# Altium footprint library Components - 18.02.23 - 10.49.PcbLib: 1 footprints
Each footprint in its own frame and in the unit in brackets; x right, y up, seen from the top. Pads: shape width x height; smd on the part's side, far side on the other; paste and mask are expansions set on the pad; w line width, h text height; cw(c..) or ccw(c..) is an arc to the next point about the centre after c.
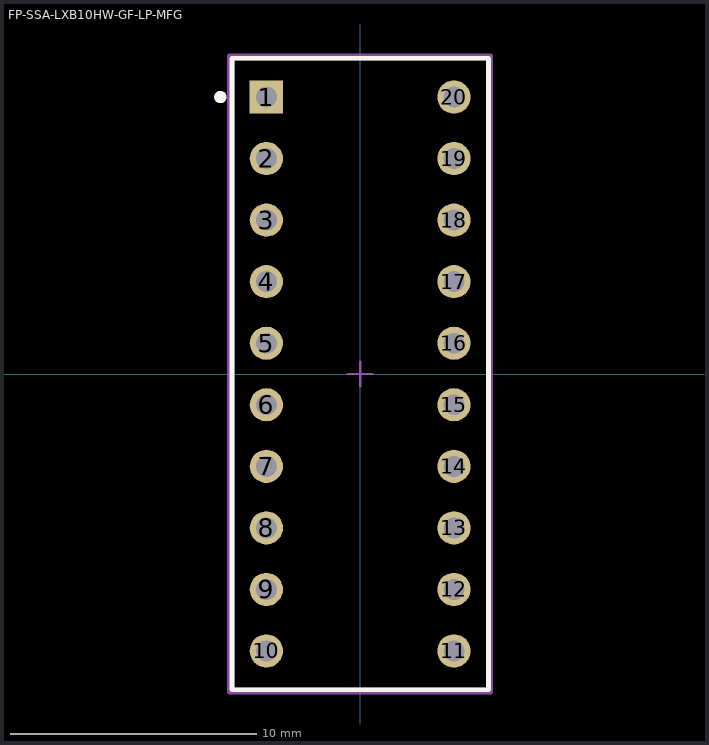
[diagram p0: the footprint, top view; thin cyan lines are the x and y axes]

## FP-SSA-LXB10HW-GF-LP-MFG [mm]
pads (20):
  rect 1.35x1.35 hole 0.85 paste-1000 mask+0: 1(-3.81,11.25)
  round 1.35 hole 0.85 paste-1000 mask+0: 2(-3.81,8.75) 3(-3.81,6.25) 4(-3.81,3.75) 5(-3.81,1.25) 6(-3.81,-1.25) 7(-3.81,-3.75) 8(-3.81,-6.25) 9(-3.81,-8.75) 10(-3.81,-11.25) 11(3.81,-11.25) 12(3.81,-8.75) 13(3.81,-6.25) 14(3.81,-3.75) 15(3.81,-1.25) 16(3.81,1.25) 17(3.81,3.75) 18(3.81,6.25) 19(3.81,8.75) 20(3.81,11.25)
Top Overlay:
  circle w0.25: c-5.68,11.25 r0.125
  lines w0.2: -5.205,-12.825 -5.205,12.825 5.205,12.825 5.205,-12.825 -5.205,-12.825
Top Assembly:
  lines w0.2: -5.305,-12.925 -5.305,12.925 5.305,12.925 5.305,-12.925 -5.305,-12.925
  text ".Designator" at 0,0.188 h1
Top 3D Body:
  lines w0.2: -5.205,-12.825 -5.205,12.825 5.205,12.825 5.205,-12.825 -5.205,-12.825
Top Courtyard:
  lines w0.2: -5.305,-12.925 -5.305,12.925 5.305,12.925 5.305,-12.925 -5.305,-12.925
Top Component Center:
  lines w0.1: -0.5,0 0.5,0 ; 0,-0.5 0,0.5
3D body "Diode_lumex_SSA-LXB10HW-GF-LP_eec.STEP": height 0.25, standoff 0, extent -5.305,-12.925 5.305,12.925